# Altium footprint library ESP32-Relay-Module.PcbLib: 41 footprints (part 2 of 3)
Each footprint in its own frame and in the unit in brackets; x right, y up, seen from the top. Pads: shape width x height; smd on the part's side, far side on the other; paste and mask are expansions set on the pad; w line width, h text height; cw(c..) or ccw(c..) is an arc to the next point about the centre after c.
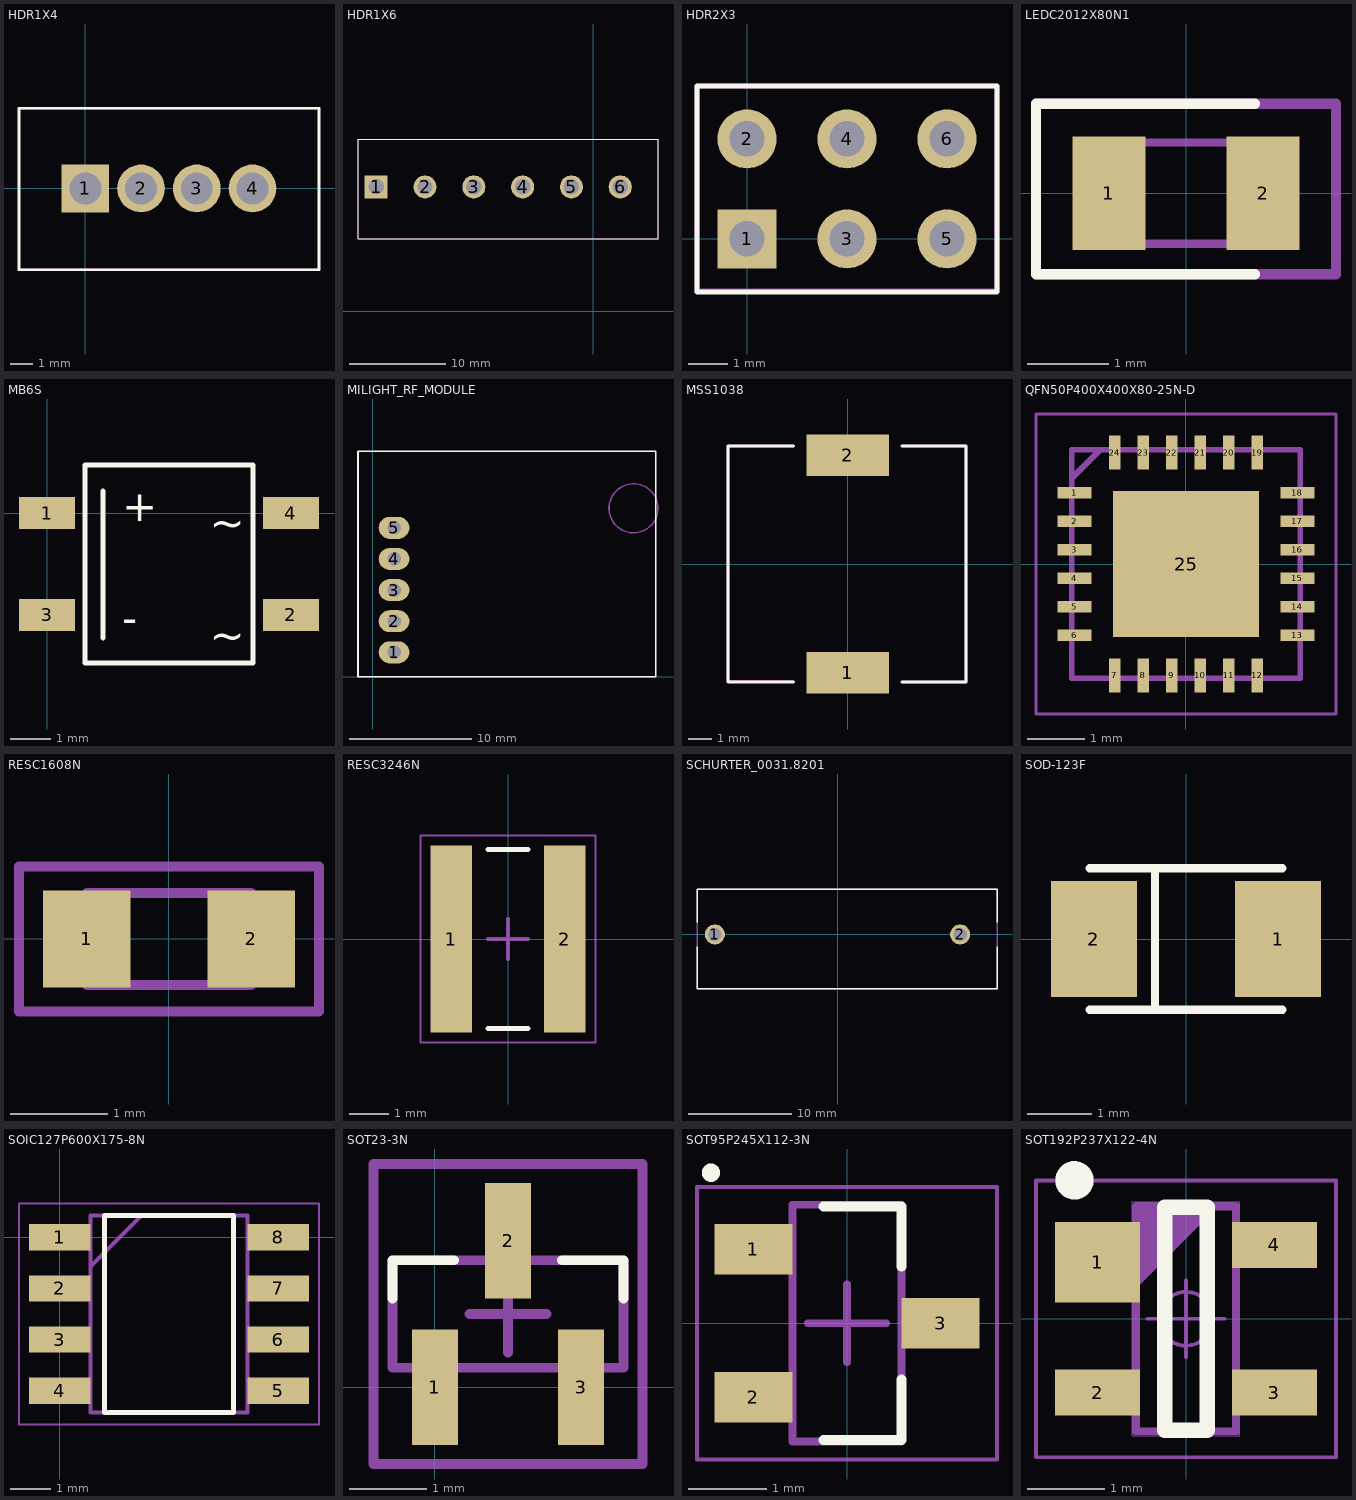
[diagram p1: the footprints below, top view; thin cyan lines are the x and y axes]

## HDR1X4 [mm]
pads (4):
  rect 2.175x2.175 / inner round 2.175 / far side rect 2.175x2.175 hole 1.45: 1(0,0)
  round 2.175 hole 1.45: 2(2.54,0) 3(5.08,0) 4(7.62,0)
Top Overlay:
  lines w0.125: -3.025,-3.705 -3.025,3.65 10.65,3.65 10.65,-3.705 -3.025,-3.705
Mechanical 15:
  lines w0.1: -3.025,-3.705 10.65,-3.705 10.65,3.65 -3.025,3.65 -3.025,-3.705
3D body "90136-1204.stp": height 10.95, standoff -2.85, extent -2.945,-3.651 10.565,3.559

## HDR1X6 [mm]
pads (6):
  rect 2.4x2.4 hole 1.6: 1(-22.606,12.954)
  round 2.4 hole 1.6: 2(-17.526,12.954) 3(-12.446,12.954) 4(-7.366,12.954) 5(-2.286,12.954) 6(2.794,12.954)
Top Overlay:
  lines w0.127: -24.5,7.55 -24.5,17.925 6.725,17.925 6.725,7.55 -24.5,7.55
Mechanical 13:
  lines w0.127: -24.5,7.55 -24.5,17.925 6.725,17.925 6.725,7.55 -24.5,7.55
Mechanical 15:
  lines w0.127: -24.5,7.55 6.725,7.55 6.725,17.925 -24.5,17.925 -24.5,7.55
3D body "CUI_DEVICES_TB007-508-06BE.step": height 14, standoff -3.7, extent -24.43,7.62 6.65,17.87

## HDR2X3 [mm] "Connector; Header; 3x2 Position"
pads (6):
  rect 1.5x1.5 hole 0.9: 1(0,0)
  round 1.5 hole 0.9: 2(0,2.54) 3(2.54,0) 4(2.54,2.54) 5(5.08,0) 6(5.08,2.54)
Top Overlay:
  lines w0.127: -1.27,-1.35 -1.27,3.885 6.35,3.885 6.35,-1.35 -1.27,-1.35
Mechanical 15:
  lines w0.127: -1.27,-1.32 6.35,-1.32 6.35,3.885 -1.27,3.885 -1.27,-1.32
3D body "Download_STP_61300621121 (rev1).stp": height 8.67, standoff -2.87, extent -1.27,-1.27 6.35,3.81

## LEDC2012X80N1 [mm]
pads (2):
  rect 0.9x1.4 smd: 1(-0.95,0) 2(0.95,0)
Top Overlay:
  lines w0.127: 0.85,-1 -1.85,-1 -1.85,1.1 0.85,1.1
Mechanical 13:
  lines w0.1: -1,0.208 -0.583,0.625 ; -1,-0.625 1,-0.625 1,0.625 -1,0.625 -1,-0.625
Mechanical 15:
  lines w0.127: -1.85,-1 1.85,-1 1.85,1.1 -1.85,1.1 -1.85,-1
3D body "150080BS75000_Download_STP_WL-SMCW-0805_rev1.stp": height 0.7, standoff 0, extent -0.95,-0.6 1.05,0.65

## MB6S [mm]
pads (4):
  rect 1.4x0.8 smd mask+0: 1(0,0) 2(6.1,-2.54) 3(0,-2.54) 4(6.1,0)
Top Overlay:
  lines w0.127: 1.399,-3.124 1.399,0.559 ; 0.95,-3.745 5.15,-3.745 5.15,1.205 0.95,1.205 0.95,-3.745
  text "~" at 4.066,-3.429 h0.76
  text "~" at 4.066,-0.61 h0.76
  text "-" at 1.882,-2.997 h0.76
  text "+" at 1.882,-0.203 h0.76
3D body "User Library-TO-269AA_jam.step": height 2.7, standoff 0, extent -0.47,-3.745 6.57,1.205

## MILIGHT_RF_MODULE [mm]
pads (5):
  oval 2.5x1.8 hole 1.1: 1(1.74,2) 2(1.74,4.54) 3(1.74,7.08) 4(1.74,9.62) 5(1.74,12.16)
Top Overlay:
  lines w0.127: -1.2,0 23.114,0 23.114,18.415 -1.2,18.415 -1.2,0
Mechanical 13:
  circle w0.127: c21.28,13.75 r2
3D body "Milight_Rf.step": height 7.55, standoff 2.61, extent -1.12,0 23.114,18.415
3D body "61300511121_Download_STP_61300511121_rev1.stp": height 5.54, standoff -6, extent 0.47,0.762 3.01,13.462

## MSS1038 [mm]
pads (2):
  rect 3.56x1.78 smd mask+0.07: 1(0,-4.7) 2(0,4.7)
Top Overlay:
  lines w0.127: -2.342,-5.1 -5.175,-5.1 -5.175,5.1 -2.342,5.1 ; 2.342,-5.1 5.1,-5.1 5.1,5.1 2.342,5.1
Mechanical 15:
  lines w0.127: -2.368,-5.075 -5.175,-5.075 -5.175,5.1 -2.342,5.1 ; 2.342,-5.1 5.1,-5.1 5.1,5.1 2.342,5.1
3D body "Coilcraft-MSS1038T.step": height 4, standoff 0, extent -5.1,-5.15 5.1,5.15

## QFN50P400X400X80-25N-D [mm]
pads (25):
  rect 0.6x0.2 smd: 1(-1.95,1.25) 2(-1.95,0.75) 3(-1.95,0.25) 4(-1.95,-0.25) 5(-1.95,-0.75) 6(-1.95,-1.25) 13(1.95,-1.25) 14(1.95,-0.75) 15(1.95,-0.25) 16(1.95,0.25) 17(1.95,0.75) 18(1.95,1.25)
  rect 0.2x0.6 smd: 7(-1.25,-1.95) 8(-0.75,-1.95) 9(-0.25,-1.95) 10(0.25,-1.95) 11(0.75,-1.95) 12(1.25,-1.95) 19(1.25,1.95) 20(0.75,1.95) 21(0.25,1.95) 22(-0.25,1.95) 23(-0.75,1.95) 24(-1.25,1.95)
  rect 2.55x2.55 smd: 25(0,0)
Mechanical 15:
  lines w0.05: -2.625,-2.625 -2.625,2.625 2.625,2.625 2.625,-2.625 -2.625,-2.625
  lines w0.1: -2,1.5 -1.5,2 ; -2,-2 2,-2 2,2 -2,2 -2,-2
3D body "CP2102N-A02-GQFN24.stp": height 0.8, standoff 0, extent -2.05,-2.05 2.05,2.05

## RESC1608N [mm] "Chip Resistor, Body 1.6x0.8mm, IPC Medium Density"
height 0.6
pads (2):
  rect 0.9x1 smd: 1(-0.85,0) 2(0.85,0)
Mechanical 13:
  lines w0.1: -0.85,-0.475 0.85,-0.475 0.85,0.475 -0.85,0.475 -0.85,-0.475
Mechanical 15:
  lines w0.1: -1.55,-0.75 1.55,-0.75 1.55,0.75 -1.55,0.75 -1.55,-0.75
3D body "CRCW0603160RFKEA.stp": height 0.5, standoff 0, extent -0.787,-0.425 0.788,0.425

## RESC3246N [mm] "Chip Resistor, 2-Leads, Body 3,10x4,60mm, IPC Medium Density"
height 0.65
pads (2):
  rect 1.05x4.7 smd: 1(-1.425,0) 2(1.425,0)
Top Overlay:
  lines w0.127: -0.5,-2.25 0.5,-2.25 ; -0.5,2.25 0.5,2.25
Mechanical 15:
  lines w0.05: -2.2,-2.6 2.2,-2.6 2.2,2.6 -2.2,2.6 -2.2,-2.6
  lines w0.1: -0.5,0 0.5,0 ; 0,-0.5 0,0.5
3D body "User Library-wk732j.step": height 0.61, standoff 0, extent -1.576,-2.3 1.524,2.3

## SCHURTER_0031.8201 [mm]
pads (2):
  round 1.95 hole 1.3: 1(-11.875,0) 2(11.875,0)
Top Overlay:
  lines w0.127: -13.611,1.2 -13.611,4.375 15.45,4.375 15.45,1.2 ; -13.6,-1.2 -13.6,-5.25 15.45,-5.25 15.45,-1.2
Mechanical 13:
  lines w0.127: -13.611,-5.25 -13.611,4.375 15.45,4.375 15.45,-5.25 -13.611,-5.25
Mechanical 15:
  lines w0.127: -13.611,-5.25 -13.611,4.375 15.45,4.375 15.45,-5.25 -13.611,-5.25
3D body "User Library-20mm_fuse.STEP": height 15.5, standoff 10.5, extent -8.603,-2.794 11.397,2.206
3D body "31-8001.stp": height 17, standoff -3, extent -13.611,-5.182 15.389,4.318

## SOD-123F [mm]
pads (2):
  rect 1.34x1.8 smd paste-0.025 mask+0.07: 1(1.43,0) 2(-1.43,0)
Top Overlay:
  lines w0.127: -1.5,-1.1 1.5,-1.1 ; -1.5,1.1 1.5,1.1 ; -0.483,-1.092 -0.483,1.1
3D body "SOD123.STEP": height 1.27, standoff 0, extent -1.85,-0.8 1.85,0.8

## SOIC127P600X175-8N [mm]
pads (8):
  rect 1.525x0.65 smd: 1(0,0) 2(0,-1.27) 3(0,-2.54) 4(0,-3.81) 5(5.424,-3.81) 6(5.424,-2.54) 7(5.424,-1.27) 8(5.424,0)
Top Overlay:
  lines w0.125: 1.112,-4.355 4.312,-4.355 4.312,0.545 1.112,0.545 1.112,-4.355
Mechanical 15:
  lines w0.05: -1.013,-4.655 -1.013,0.845 6.437,0.845 6.437,-4.655 -1.013,-4.655
  lines w0.1: 0.762,-0.725 2.032,0.545 ; 0.762,-4.355 4.662,-4.355 4.662,0.545 0.762,0.545 0.762,-4.355
3D body "ACS712ELCTR-20A-T.stp": height 1.75, standoff 0, extent -0.288,-4.355 5.712,0.545

## SOT23-3N [mm] "SOT23, 3-Leads, Body 2.9x1.3mm, Pitch 0.95mm, Lead Span 2.5mm, IPC Medium Density"
height 1.1
pads (3):
  rect 0.6x1.5 smd: 1(0,0) 2(0.95,1.9) 3(1.9,0)
Top Overlay:
  lines w0.127: -0.55,1.15 -0.55,1.65 0.25,1.65 ; 1.65,1.65 2.45,1.65 2.45,1.15
Mechanical 13:
  lines w0.127: -0.55,0.25 2.45,0.25 2.45,1.65 -0.55,1.65 -0.55,0.25
Mechanical 15:
  lines w0.127: 0.45,0.95 1.45,0.95 ; 0.95,0.45 0.95,1.45 ; -0.8,-1 2.7,-1 2.7,2.9 -0.8,2.9 -0.8,-1
3D body: height 1.1, standoff 0, extent -0.55,0.25 2.45,1.65

## SOT95P245X112-3N [mm] "SOT23, 3-Leads, Body 2.92x2.45mm, Pitch 0.95mm, IPC Medium Density"
height 1.12
pads (3):
  rect 1x0.65 smd: 1(-1.2,0.95) 2(-1.2,-0.95) 3(1.2,0)
Top Overlay:
  circle w0.127: c-1.746,1.932 r0.054
  lines w0.127: -0.3,-1.5 0.7,-1.5 0.7,-0.725 ; -0.3,1.5 0.7,1.5 0.7,0.725
Mechanical 2:
  lines w0.1: -0.7,-1.52 0.7,-1.52 0.7,1.52 -0.7,1.52 -0.7,-1.52
Mechanical 15:
  lines w0.05: -1.925,-1.75 -1.925,1.75 1.925,1.75 1.925,-1.75 -1.925,-1.75
  lines w0.1: -0.5,0 0.5,0 ; 0,-0.5 0,0.5
3D body: height 1.12, standoff 0.05, extent -0.7,-1.52 0.7,1.52

## SOT192P237X122-4N [mm]
pads (4):
  rect 1.1x1.05 smd: 1(-1.15,0.735)
  rect 1.1x0.6 smd: 2(-1.15,-0.96) 3(1.15,-0.96) 4(1.15,0.96)
Top Overlay:
  circle w0.25: c-1.45,1.8 r0.125
  lines w0.2: -0.275,-1.45 -0.275,1.45 0.275,1.45 0.275,-1.45 -0.275,-1.45
Mechanical 13:
  lines w0.1: -0.65,0.46 0.35,1.46 ; -0.65,0.56 0.25,1.46 ; -0.65,0.66 0.15,1.46 ; -0.65,0.76 0.05,1.46 ; -0.65,0.86 -0.05,1.46 ; -0.65,0.96 -0.15,1.46 ; -0.65,1.06 -0.25,1.46 ; -0.65,1.16 -0.35,1.46 ; -0.65,1.26 -0.45,1.46 ; -0.65,1.36 -0.55,1.46 ; -0.65,-1.46 -0.65,1.46 0.65,1.46 0.65,-1.46 -0.65,-1.46
Mechanical 15:
  circle w0.05: c0,0 r0.35
  lines w0.001: -0.7,-1.52 -0.7,1.52 0.7,1.52 0.7,-1.52 -0.7,-1.52
  lines w0.05: -0.5,0 0.5,0 ; 0,-0.5 0,0.5 ; -1.95,-1.8 -1.95,1.8 1.95,1.8 1.95,-1.8 -1.95,-1.8
3D body "User Library-SOT143-1.STEP": height 1.22, standoff 0, extent -1.181,-1.45 1.182,1.45